# Altium schematic symbol library Schlib1.SchLib: 26 symbols
Pins are listed as number, name and electrical type; pins without a type are passive.

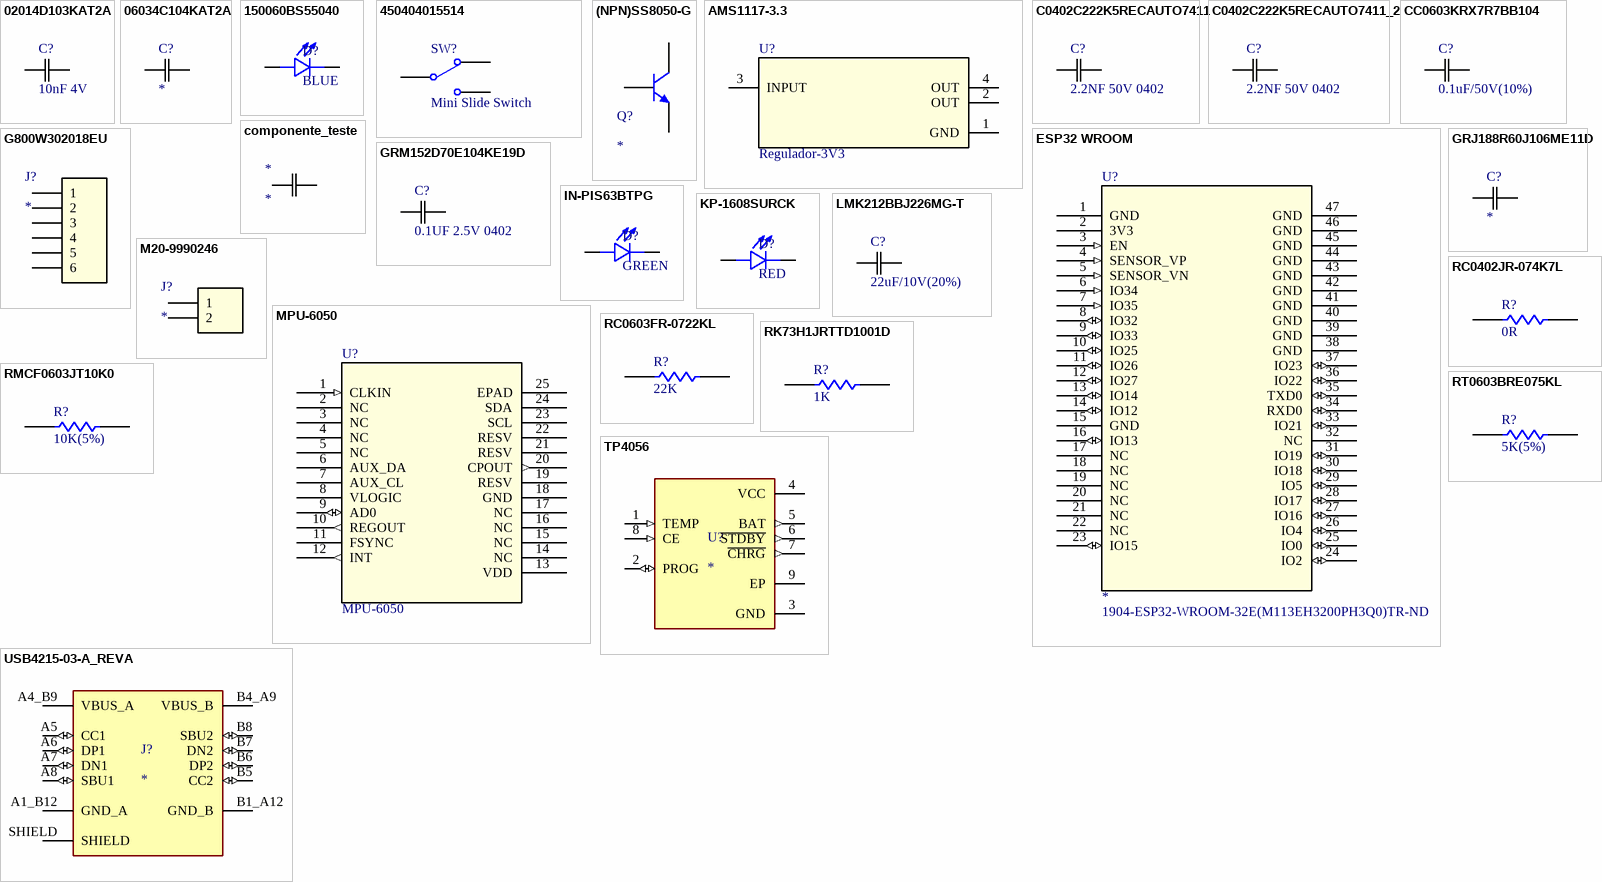
[diagram p0: symbols 02014D103KAT2A to USB4215-03-A_REVA]

## 02014D103KAT2A
designator C?, comment 10nF 4V
Ceramic, X7R, 10nF ±10%, 4V; Mfr_Name: KYOCERA AVX; Supplier 1: Mouser; Supplier Part Number 1: 581-02014D103KAT2A
footprint CAP_02013J0R1PBSTR500
pins: 1 EPAD, 2 EPAD

## 06034C104KAT2A
designator C?
CAP CER 0.1UF 4V X7R 0603; MP: 06034C104KAT2A; Package: None; Price: None; Value: *; Availability: Unavailable; Supplier 1: Digikey; Supplier Part Number 1: 478-06034C104KAT2ACT-ND
footprint CAPC1608X90N
pins: 1, 2

## 150060BS55040
designator D?, comment BLUE
Single Color LEDs WL-SMCD SMD Mono SMD 0603 Blue 465nm; MF: Kingbright; MP: KP-1608SURCK; SnapEDA_Link: https://www.snapeda.com/parts/KP-1608SURCK/Kingbright/view-part/?ref=snap; Package: 0603 Kingbright; Value: *; Check_prices: https://www.snapeda.com/parts/KP-1608SURCK/Kingbright/view-part/?ref=eda
footprint LED_KP-1608SURCK
pins: 1 A, 2 C

## 450404015514
designator SW?, comment Mini Slide Switch
WS-SLSU Mini Slide Switch, Same Side Connection Side Push, SPDT, 5VDC, 300mA, 240g; Manufacturer Part Number: 450404015514; Manufacturer: Wurth Elektronik; ComponentLink1Description: Website Link; ComponentLink1URL: https://www.we-online.com/redexpert/article/450404015514?ad; ComponentLink2Description: Datasheet Link; ComponentLink2URL: https://www.we-online.com/redexpert/spec/450404015514?ad; Category: Slide Switches; Match Code: WS-SLSU; Mount: Surface Mount; Operating Temperature Max: 85°C; Operating Temperature Min: -40°C; Packaging: Tape and Reel; Length: 6.7mm; Width: 2.7mm; Height: 1.1mm; Circuit: SPDT; Contact Material: Copper Alloy; Contact Plating: Silver; Operation Force: 240g; Rated Current: 300mA; Rated Voltage: 5VDC; Terminal Material: Copper Alloy; Terminal Plating: Silver; Supplier 1: Digikey; Supplier Part Number 1: 732-13665-1-ND
footprint 450404015514
pins: COM, L1, L2

## (NPN)SS8050-G
designator Q?
Transistor NPN; Mfr_Name: Comchip; RefDes: RefDes; Type: Type
footprint (NPN)SS8050-G
pins: 1 C, 2 B, 3 E

## AMS1117-3.3
designator U?, comment Regulador-3V3
Mfr_Name: Texas Instruments; TYPE: TYPE; RefDes: RefDes; Supplier 1: Digikey; Supplier Part Number 1: 4518-AMS1117-3.3CT-ND
footprint AMS1117-3.3
pins: 1 GND (power), 2 OUT (power), 3 INPUT (power), 4 OUT (power)

## C0402C222K5RECAUTO7411
designator C?, comment 2.2NF 50V 0402
CAP CER 0402 2.2NF 50V X7R 10%; Mfr_Name: Kemet; Supplier 1: Mouser; Supplier Part Number 1: 80-C0402C222K5REAULR
footprint CAPC10555_55N_KEM
pins: 1, 2

## C0402C222K5RECAUTO7411_2
designator C?, comment 2.2NF 50V 0402
CAP CER 0402 2.2NF 50V X7R 10%; Mfr_Name: Kemet; Supplier 1: Mouser; Supplier Part Number 1: 80-C0402C222K5REAULR
footprint CAPC10555_55N_KEM
pins: 1, 2

## CC0603KRX7R7BB104
designator C?, comment 0.1uF/50V(10%)
cap 0.1uF/50V(10%); Mfr_Name: Yageo; Supplier 1: Future Electronics; Supplier Part Number 1: 2938116
footprint CC0603N_YAG
footprint CC0603N_YAG
pins: 1, 2

## componente_teste
designator *
footprint CAPC1608X90N
pins: 1, 2

## ESP32 WROOM
designator U?  Supplier Part Number 1: 1904-ESP32-WROOM-32E(M113EH3200PH3Q0)TR-ND
Supplier 1: Digikey
footprint MOD_ESP32-WROOM-32_EXP
pins: 1 GND (power), 2 3V3 (power), 3 EN (in), 4 SENSOR_VP (in), 5 SENSOR_VN (in), 6 IO34 (in), 7 IO35 (in), 8 IO32 (io), 9 IO33 (io), 10 IO25 (io), 11 IO26 (io), 12 IO27 (io), 13 IO14 (io), 14 IO12 (io), 15 GND (power), 16 IO13 (io), 17 NC, 18 NC, 19 NC, 20 NC, 21 NC, 22 NC, 23 IO15 (io), 24 IO2 (io), 25 IO0 (io), 26 IO4 (io), 27 IO16 (io), 28 IO17 (io), 29 IO5 (io), 30 IO18 (io), 31 IO19 (io), 32 NC, 33 IO21 (io), 34 RXD0 (io), 35 TXD0 (io), 36 IO22 (io), 37 IO23 (io), 38 GND (power), 39 GND (power), 40 GND (power), 41 GND (power), 42 GND (power), 43 GND (power), 44 GND (power), 45 GND (power), 46 GND (power), 47 GND (power)

## G800W302018EU
designator J?
header 6x1; Mfr_Name: Amphenol ICC; Type: Headers, Male Pins; RefDes: RefDes
footprint CONN6x1_G800W302018EU_AMP
footprint CONN6x1_G800W302018EU_AMP
pins: 1, 2, 3, 4, 5, 6

## GRJ188R60J106ME11D
designator C?
Multilayer Ceramic Capacitors MLCC - SMD/SMT 10 uF 6.3 VDC 20% 0603 X5R; MP: 06034C104KAT2A; Package: None; Price: None; Value: *; Availability: Unavailable; Supplier 1: Mouser; Supplier Part Number 1: 81-GRJ188R60J106ME1D
footprint CAPC1608X90N
pins: 1, 2

## GRM152D70E104KE19D
designator C?, comment 0.1UF 2.5V 0402
CAP CER 0.1UF 2.5V X7T 0402; MP: GRM152D70E104KE19D; Package: None; Price: None; Value: *; Availability: Unavailable; Supplier 1: Digikey; Supplier Part Number 1: GRM152D70E104KE19D-ND
footprint CAPC0201X13N
pins: 1, 2

## IN-PIS63BTPG
designator D?, comment GREEN
Single Color LEDs Top View / 0603 / 1.6 x 0.8 x 0.55mm; MF: Kingbright; MP: KP-1608SURCK; SnapEDA_Link: https://www.snapeda.com/parts/KP-1608SURCK/Kingbright/view-part/?ref=snap; Package: 0603 Kingbright; Value: *; Check_prices: https://www.snapeda.com/parts/KP-1608SURCK/Kingbright/view-part/?ref=eda
footprint LED_KP-1608SURCK
pins: 1 A, 2 C

## KP-1608SURCK
designator D?, comment RED
LED; SMD; 0603; red; 50-150mcd; 1.6x0.8mm; 120Â°; 20mA;; MF: Kingbright; MP: KP-1608SURCK; SnapEDA_Link: https://www.snapeda.com/parts/KP-1608SURCK/Kingbright/view-part/?ref=snap; Package: 0603 Kingbright; Value: *; Check_prices: https://www.snapeda.com/parts/KP-1608SURCK/Kingbright/view-part/?ref=eda
footprint LED_KP-1608SURCK
pins: 1 A, 2 C

## LMK212BBJ226MG-T
designator C?, comment 22uF/10V(20%)
cap 22uF/10V(20%); Mfr_Name: Taiyo Yuden; Supplier Part Number 1: 587-5464-1-ND; Supplier 1: Digikey
footprint CAP_LMK212B_2X1P25_TAY-M
pins: 1, 2

## M20-9990246
designator J?
header 2x1; Mfr_Name: Harwin; RefDes: RefDes; Type: Type
footprint CONN2_M20-999_1x2_HRW
pins: 1, 2

## MPU-6050
designator U?
MPU6050; Mfr_Name: TDK; Type: Motion Sensors; RefDes: RefDes; Supplier 1: Newark; Supplier Part Number 1: 37T8113
footprint QFN24_4X4X0P9-0P5_TDK-M
pins: 1 CLKIN (in), 2 NC, 3 NC, 4 NC, 5 NC, 6 AUX_DA, 7 AUX_CL, 8 VLOGIC (power), 9 AD0 (io), 10 REGOUT (out), 11 FSYNC, 12 INT (out), 13 VDD (power), 14 NC, 15 NC, 16 NC, 17 NC, 18 GND (power), 19 RESV, 20 CPOUT (out), 21 RESV, 22 RESV, 23 SCL, 24 SDA, 25 EPAD

## RC0402JR-074K7L
designator R?, comment 0R
Jumper; Mfr_Name: Yageo; Supplier 1: Digikey; Supplier Part Number 1: 311-4.7KJRCT-ND
footprint RC0402N_YAG
pins: 1, 2

## RC0603FR-0722KL
designator R?, comment 22K
RES 22K; Mfr_Name: Yageo; Supplier 1: Future Electronics; Supplier Part Number 1: 1933787
footprint RC0603N_YAG
footprint RC0603N_YAG
pins: 1, 2

## RK73H1JRTTD1001D
designator R?, comment 1K
RES 1K; Mfr_Name: Stackpole International; Supplier 1: Mouser; Supplier Part Number 1: 660-RK73H1JRTTD1001D
footprint STA_RMCF0603_STP-M
pins: 1, 2

## RMCF0603JT10K0
designator R?, comment 10K(5%)
RES 10K; Mfr_Name: Stackpole International; Supplier 1: Digikey; Supplier Part Number 1: RMCF0603JT10K0CT-ND
footprint STA_RMCF0603_STP-M
pins: 1, 2

## RT0603BRE075KL
designator R?, comment 5K(5%)
RES 5K; Mfr_Name: Stackpole International; Supplier 1: Future Electronics; Supplier Part Number 1: 6147750
footprint STA_RMCF0603_STP-M
pins: 1, 2

## TP4056
designator U?
Complete single cell Li-Ion battery with a constant current / constant voltage linear charger; MF: NanJing Top Power ASIC Corp.; MP: TP4056; Check_prices: https://www.snapeda.com/parts/TP4056/NanJing+Top+Power+ASIC+Corp./view-part/?ref=eda; SnapEDA_Link: https://www.snapeda.com/parts/TP4056/NanJing+Top+Power+ASIC+Corp./view-part/?ref=snap; Price: None; Availability: Not in stock; Package: Package; Value: *
footprint SOP127P600X175-9N
pins: 1 TEMP (in), 2 PROG (io), 3 GND (power), 4 VCC (power), 5 BAT (out), 6 ~{STDBY} (out), 7 ~{CHRG} (out), 8 CE (in), 9 EP

## USB4215-03-A_REVA
designator J?
Type C USB 2.0 Connector; MF: Global Connector Technology; MP: USB4215-03-A; SnapEDA_Link: https://www.snapeda.com/parts/USB4215-03-A/Global+Connector+Technology/view-part/?ref=snap; Package: None; Value: *; Check_prices: https://www.snapeda.com/parts/USB4215-03-A/Global+Connector+Technology/view-part/?ref=eda
footprint GCT_USB4215-03-A_REVA
pins: A1_B12 GND_A (power), A4_B9 VBUS_A (power), A5 CC1 (io), A6 DP1 (io), A7 DN1 (io), A8 SBU1 (io), B1_A12 GND_B (power), B4_A9 VBUS_B (power), B5 CC2 (io), B6 DP2 (io), B7 DN2 (io), B8 SBU2 (io), SHIELD